# Altium footprint library 100VDC_30A_REL.PcbLib: 1 footprints
Each footprint in its own frame and in the unit in brackets; x right, y up, seen from the top. Pads: shape width x height; smd on the part's side, far side on the other; paste and mask are expansions set on the pad; w line width, h text height; cw(c..) or ccw(c..) is an arc to the next point about the centre after c.
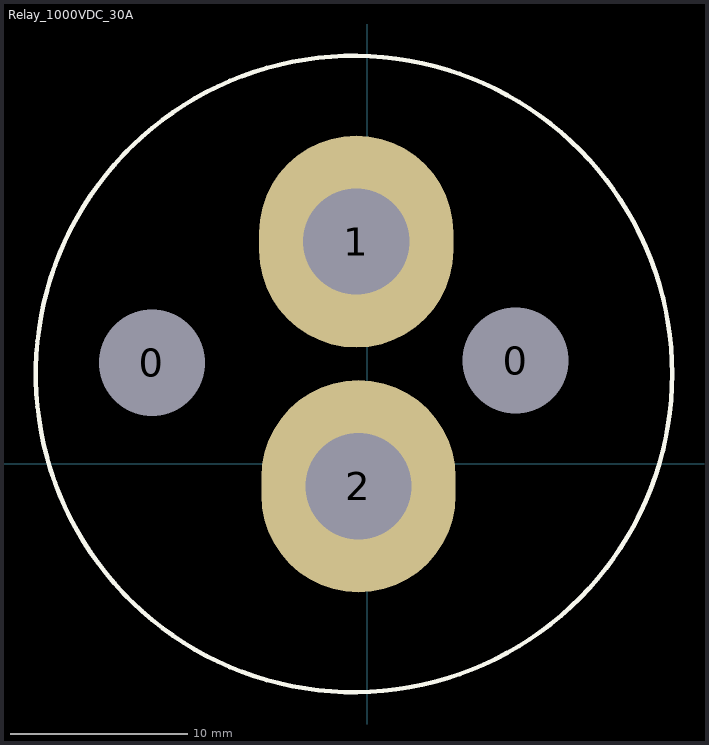
[diagram p0: the footprint, top view; thin cyan lines are the x and y axes]

## Relay_1000VDC_30A [mm] "Relay_1000VDC_30A"
pads (4):
  round 4 hole 6: 0(-12.192,5.715) 0(8.382,5.842)
  oval 11x12 hole 6: 1(-0.635,12.573) 2(-0.508,-1.27)
Top Overlay:
  circle w0.254: c-0.762,5.08 r18
3D body "Реле.STEP": height 52, standoff -2.5, extent -17.244,-19.085 16.256,30.515